# Altium footprint library EE13_1100mA_HF_Transformer..PcbLib: 1 footprints
Each footprint in its own frame and in the unit in brackets; x right, y up, seen from the top. Pads: shape width x height; smd on the part's side, far side on the other; paste and mask are expansions set on the pad; w line width, h text height; cw(c..) or ccw(c..) is an arc to the next point about the centre after c.
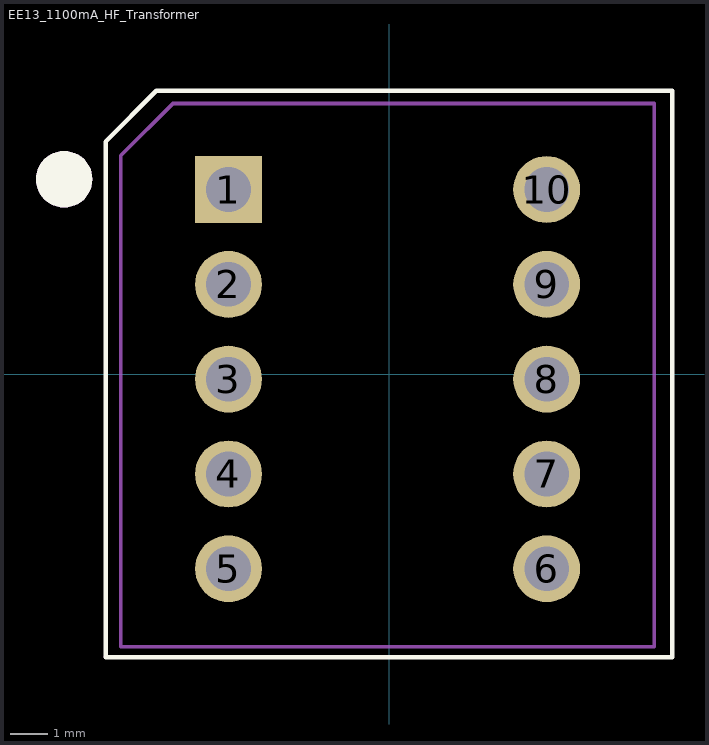
[diagram p0: the footprint, top view; thin cyan lines are the x and y axes]

## EE13_1100mA_HF_Transformer [mm] "EE13_1100mA_HF_Transformer"
pads (12):
  rect 1.8x1.8 hole 1.2: 1(-4.32,4.961)
  round 1.8 hole 1.2: 2(-4.32,2.411) 3(-4.32,-0.139) 4(-4.32,-2.689) 5(-4.32,-5.239) 6(4.24,-5.239) 7(4.24,-2.689) 8(4.24,-0.139) 9(4.24,2.411) 10(4.24,4.961)
  round 1.524 on Top Overlay: ""(-8.74,5.239)
  round 1.524 on Mech1: ""(-8.74,5.239)
Top Overlay:
  lines w0.12: -7.625,-7.605 -7.625,6.25 -6.26,7.615 -5.865,7.615 7.615,7.615 7.615,-7.615 -7.615,-7.615
Mechanical 1:
  lines w0.1: -7.625,-7.605 -7.615,-7.615 ; -7.216,-7.334 -7.216,5.874 -5.815,7.275 7.135,7.275 7.135,-7.334 -7.216,-7.334
  text ".Designator" at -0.975,2.09 h3
Mechanical 15:
  text "+" at -1.666,-2.499 h5
3D body "EE13.STEP": height 13.86, standoff -2.92, extent -6.943,-6.94 6.875,6.69